# EAGLE library part MOTEINO_R4_MODULE (library MoteinoR4Mod)
Moteino Module as a device. Available in two footprints, one with pads for 0.025" sq pins, and one using wire pins.
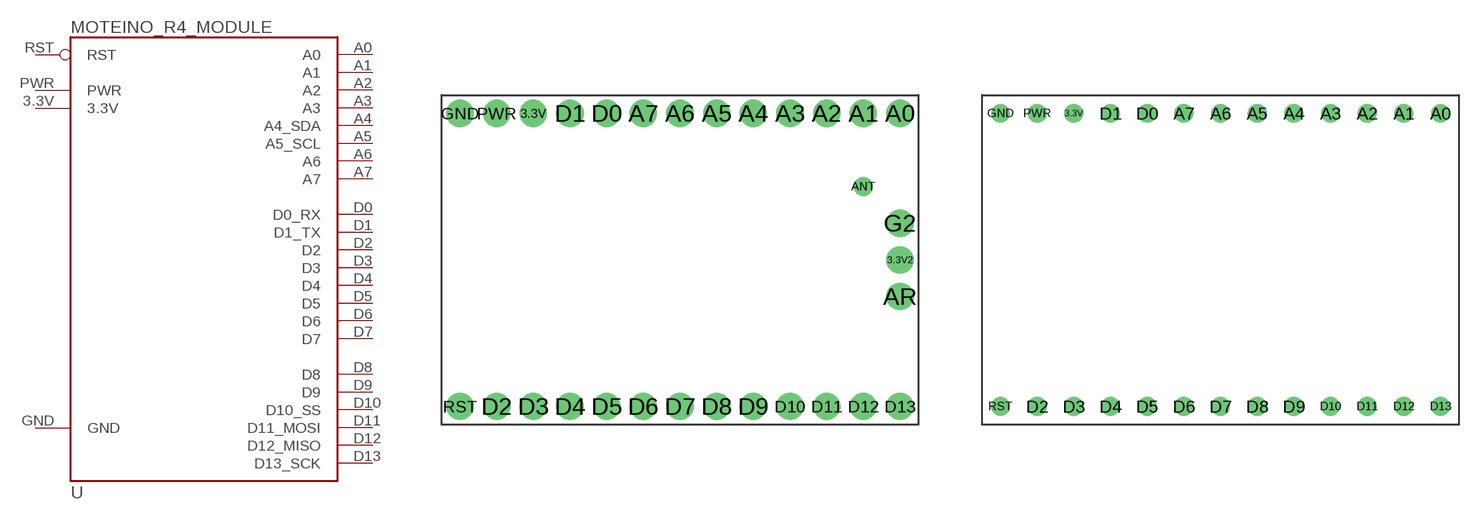
[diagram p0: symbol with the pads of MOTEINTO_R4_SQ; footprints MOTEINTO_R4_SQ, MOTEINO_R4_WIRE]

Designator prefix -

## MOTEINO_R4_MODULEUSING_SQ_POST_PINS  [MOTEINTO_R4_SQ]
3.3V  3.3V  pas
A0  A0
A1  A1
A2  A2
A3  A3
A4  A4_SDA
A5  A5_SCL
A6  A6
A7  A7
D0  D0_RX
D1  D1_TX
D2  D2
D3  D3
D4  D4
D5  D5
D6  D6
D7  D7
D8  D8
D9  D9
D10  D10_SS
D11  D11_MOSI
D12  D12_MISO
D13  D13_SCK
GND  GND  pwr
PWR  PWR  pas
RST  RST

## MOTEINO_R4_MODULEUSING_WIRE_PINS  [MOTEINO_R4_WIRE]
Pads as for MOTEINTO_R4_SQ

## Footprint MOTEINTO_R4_SQ (pad centres in mm)
Footprint for Moteino R4 Module using 0.025" Square Post Pins
drill 1.016 pad 1.88: 3.3V -10.16,10.16; 3.3V2 15.24,0; A0 15.24,10.16; A1 12.7,10.16; A2 10.16,10.16; A3 7.62,10.16; A4 5.08,10.16; A5 2.54,10.16; A6 0,10.16; A7 -2.54,10.16; AR 15.24,-2.54; D0 -5.08,10.16; D1 -7.62,10.16; D2 -12.7,-10.16; D3 -10.16,-10.16; D4 -7.62,-10.16; D5 -5.08,-10.16; D6 -2.54,-10.16; D7 0,-10.16; D8 2.54,-10.16; D9 5.08,-10.16; D10 7.62,-10.16; D11 10.16,-10.16; D12 12.7,-10.16; D13 15.24,-10.16; G2 15.24,2.54; GND -15.24,10.16; PWR -12.7,10.16; RST -15.24,-10.16
drill 0.8: ANT 12.7,5.08

## Footprint MOTEINO_R4_WIRE (pad centres in mm)
drill 0.8: 3.3V -10.16,8.89; A0 15.24,8.89; A1 12.7,8.89; A2 10.16,8.89; A3 7.62,8.89; A4 5.08,8.89; A5 2.54,8.89; A6 0,8.89; A7 -2.54,8.89; D0 -5.08,8.89; D1 -7.62,8.89; D2 -12.7,-11.43; D3 -10.16,-11.43; D4 -7.62,-11.43; D5 -5.08,-11.43; D6 -2.54,-11.43; D7 0,-11.43; D8 2.54,-11.43; D9 5.08,-11.43; D10 7.62,-11.43; D11 10.16,-11.43; D12 12.7,-11.43; D13 15.24,-11.43; GND -15.24,8.89; PWR -12.7,8.89; RST -15.24,-11.43